# EAGLE library part ADJ56005 (library ADJ56005)
General Purpose Relays 2 Form C, 5VDC Single-Side-Stable Source: Datasheet <https://www.arrow.com/en/products/adj56005/panasonic>
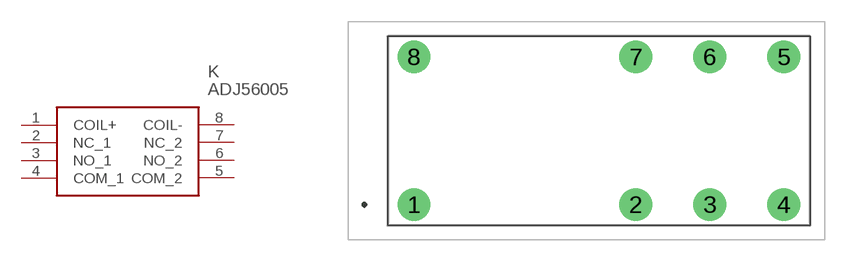
[diagram p0: symbol with the pads of ADJ56005; footprint ADJ56005]

Designator prefix K

## ADJ56005 (Arrow_Part_Number: ADJ56005; Arrow_Price-Stock: https://www.arrow.com/en/products/adj56005/panasonic; Description: General Purpose Relays 2 Form C, 5VDC Single-Side-Stable; Height: 16.8mm; Manufacturer_Name: Panasonic; Manufacturer_Part_Number: ADJ56005; Mouser_Part_Number: 769-ADJ56005; Mouser_Price-Stock: https://www.mouser.co.uk/ProductDetail/Panasonic-Industrial-Devices/ADJ56005?qs=K19snyAz2PDLYPJLi5JsPw%3D%3D)  [ADJ56005]
1  COIL+
2  NC_1
3  NO_1
4  COM_1
5  COM_2
6  NO_2
7  NC_2
8  COIL-

## Footprint ADJ56005 (pad centres in mm)
ADJ56005-1
drill 1.5 pad 2.25: 1 0,0; 2 15.24,0; 3 20.32,0; 4 25.4,0; 5 25.4,10.16; 6 20.32,10.16; 7 15.24,10.16; 8 0,10.16